# Altium schematic symbol library User_Box_Symbols.SchLib: 2 symbols
Pins are listed as number, name and electrical type; pins without a type are passive.

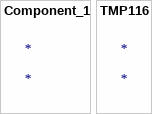
[diagram p0: symbols Component_1 to TMP116]

## Component_1
designator *

## TMP116
designator *